# Altium footprint library Protection.PcbLib: 1 footprints
Each footprint in its own frame and in the unit in brackets; x right, y up, seen from the top. Pads: shape width x height; smd on the part's side, far side on the other; paste and mask are expansions set on the pad; w line width, h text height; cw(c..) or ccw(c..) is an arc to the next point about the centre after c.
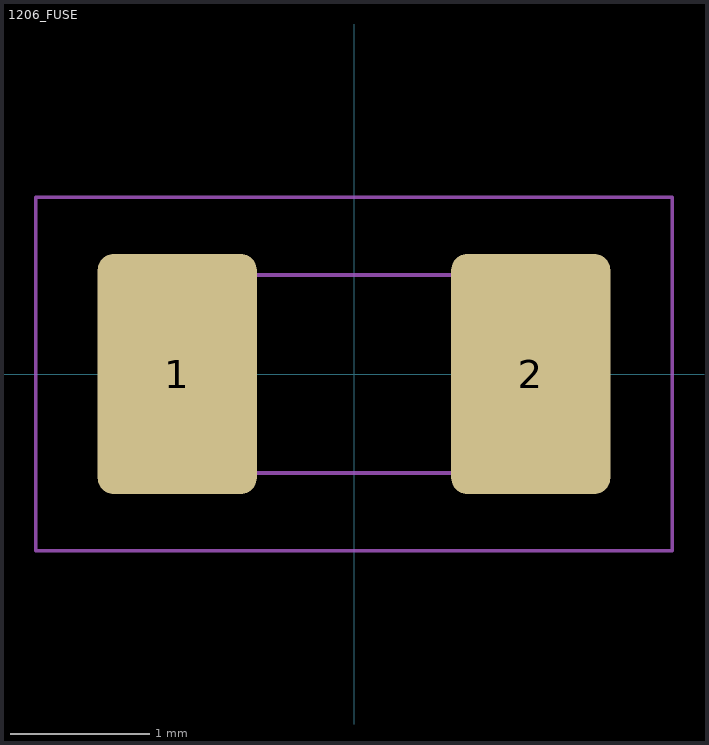
[diagram p0: the footprint, top view; thin cyan lines are the x and y axes]

## 1206_FUSE [mil]
pads (2):
  rrect20% 45x68 smd: 1(-50,0) 2(50,0)
Top Designator:
  text ".Designator" at -54.7,-5.36 h15
Top Courtyard:
  lines w1: -90,-50 -90,50 90,50 90,-50 -90,-50
Top Component Outline:
  lines w1: -63,31 -30,31 -30,-31 ; -63,31 -63,-31 -30,-31 ; -63,31 -30,-31 ; 30,31 63,31 63,-31 ; 30,31 30,-31 63,-31 ; 30,31 63,-31 ; -35,-28 -35,28 35,28 35,-28 -35,-28
3D body: height 59, standoff 3, extent -35,-28 35,28
3D body: height 62, standoff 0, extent -63,-31 -30,31
3D body: height 62, standoff 0, extent 30,-31 63,31